# Altium footprint library M50-3610542.PcbLib: 1 footprints
Each footprint in its own frame and in the unit in brackets; x right, y up, seen from the top. Pads: shape width x height; smd on the part's side, far side on the other; paste and mask are expansions set on the pad; w line width, h text height; cw(c..) or ccw(c..) is an arc to the next point about the centre after c.
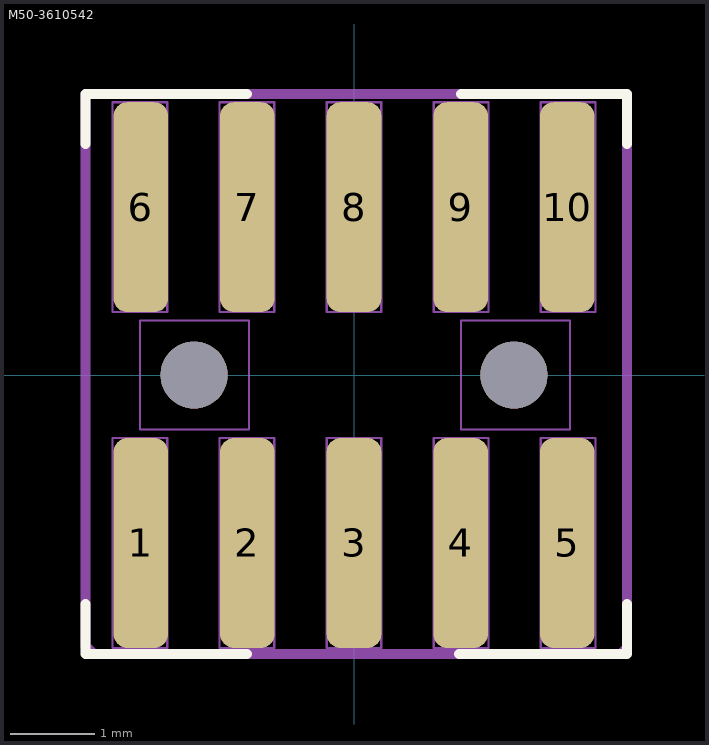
[diagram p0: the footprint, top view; thin cyan lines are the x and y axes]

## M50-3610542 [mm]
pads (12):
  rrect50% 0.65x2.5 smd: 1(-2.54,-2) 2(-1.27,-2) 3(0,-2) 4(1.27,-2) 5(2.54,-2) 6(-2.54,2) 7(-1.27,2) 8(0,2) 9(1.27,2) 10(2.54,2)
  round 0.8 hole 0.8: ""(-1.905,0) ""(1.905,0)
Top Overlay:
  lines w0.12: -3.2,-2.725 -3.2,-3.325 -1.275,-3.325 ; -3.2,2.75 -3.2,3.35 -1.275,3.35 ; 1.25,-3.325 3.25,-3.325 3.25,-2.725 ; 1.275,3.35 3.25,3.35 3.25,2.75
Mechanical 3:
  lines w0.12: -3.2,-3.225 -3.1,-3.325 3.175,-3.325 3.25,-3.25 3.25,-3.1 3.25,3.35 -3.2,3.35 -3.2,-3.225
Mechanical 5:
  lines w0.025: -2.875,-3.25 -2.875,-0.75 -2.225,-0.75 -2.225,-3.25 -2.875,-3.25 ; -2.875,0.75 -2.225,0.75 -2.225,3.25 -2.875,3.25 -2.875,0.75 ; -2.55,-0.65 -2.55,0.65 -1.25,0.65 -1.25,-0.65 -2.55,-0.65 ; -1.6,-3.25 -0.95,-3.25 -0.95,-0.75 -1.6,-0.75 -1.6,-3.25 ; -1.6,0.75 -0.95,0.75 -0.95,3.25 -1.6,3.25 -1.6,0.75 ; -0.325,-3.25 0.325,-3.25 0.325,-0.75 -0.325,-0.75 -0.325,-3.25 ; -0.325,0.75 0.325,0.75 0.325,3.25 -0.325,3.25 -0.325,0.75 ; 0.95,-3.25 0.95,-0.75 1.6,-0.75 1.6,-3.25 0.95,-3.25 ; 0.95,0.75 1.6,0.75 1.6,3.25 0.95,3.25 0.95,0.75 ; 1.275,-0.65 2.575,-0.65 2.575,0.65 1.275,0.65 1.275,-0.65 ; 2.225,-3.25 2.225,-0.75 2.875,-0.75 2.875,-3.25 2.225,-3.25 ; 2.225,0.75 2.875,0.75 2.875,3.25 2.225,3.25 2.225,0.75
Mechanical 9:
  text "'.Designator'" at -5.7,-0.325 h1
3D body "M50-3610542.STEP": height 4.69, standoff -0.81, extent -3.15,-2.75 3.2,2.75
3D body: height 1, standoff 0, extent -3.175,-3.327 3.251,3.378